# Altium schematic symbol library V-Semiconductors.SCHLIB: 42 symbols
Pins are listed as number, name and electrical type; pins without a type are passive.

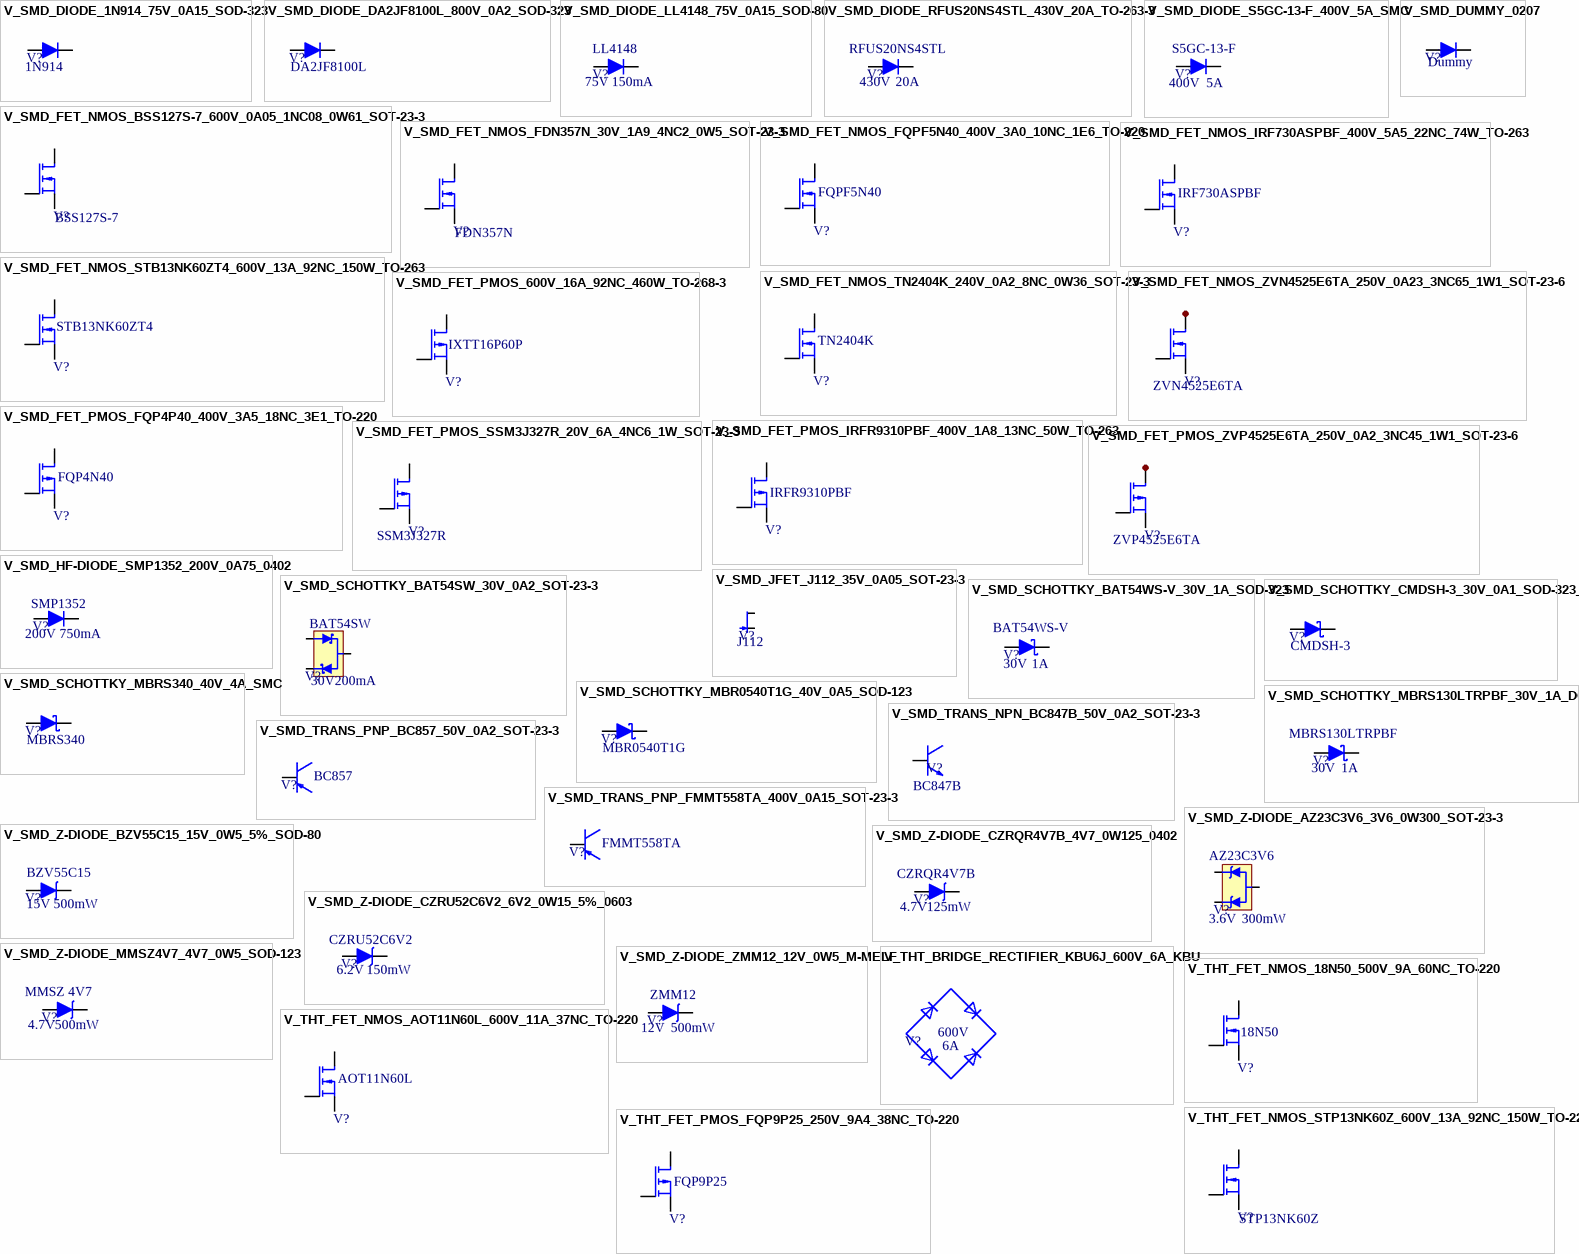
[diagram p0: symbols V_SMD_DIODE_1N914_75V_0A15_SOD-323 to V_THT_FET_PMOS_FQP9P25_250V_9A4_38NC_TO-220]

## V_SMD_DIODE_1N914_75V_0A15_SOD-323
designator V?  Type: 1N914  (hidden comment: V_SMD_DIODE_1N914_75V_0A15_SOD-323)
SMD Diode, 75V, 0.15A; Supplier - Digikey: 1N914BWSCT-ND
footprint SMD_SOD_323
pins: 1, 2

## V_SMD_DIODE_DA2JF8100L_800V_0A2_SOD-323
designator V?  Type: DA2JF8100L  (hidden comment: V_SMD_DIODE_DA2JF8100L_800V_0A2_SOD-323)
Fast Recovery Diode; Supplier - Digikey: DA2JF8100LTR-ND
footprint SMD_SOD_323
pins: 1, 2

## V_SMD_DIODE_LL4148_75V_0A15_SOD-80
designator V?  value 75V  Type: LL4148  Value2: 150mA  (hidden comment: V_SMD_DIODE_LL4148_75V_0A15_SOD-80)
Supplier - E+H-flowtec SAP: 50019426
footprint SMD_SOD_80P
pins: 1, 2

## V_SMD_DIODE_RFUS20NS4STL_430V_20A_TO-263-3
designator V?  value 430V  Type: RFUS20NS4STL  Value2: 20A  (hidden comment: V_SMD_DIODE_RFUS20NS4STL_430V_20A_TO-263-3)
Super Fast Recovery Diode; Supplier - Digikey: RFUS20NS4STLCT-ND
footprint SMD_TO_263; pin to pad 2>4
pins: 1, 2, 3

## V_SMD_DIODE_S5GC-13-F_400V_5A_SMC
designator V?  value 400V  Type: S5GC-13-F  Value2: 5A  (hidden comment: V_SMD_DIODE_S5GC-13-F_400V_5A_SMC)
Surface Mount Glass Passivated Rectifier; Supplier - Digikey: S5GC-FDICT-ND
footprint SMD_SMC_P (SMD_SMC (polarized))
pins: 1, 2

## V_SMD_DUMMY_0207
designator V?  Type: Dummy  (hidden comment: V_SMD_DUMMY_0207)
Dummy Diode
footprint SMD_0207
pins: 1, 2

## V_SMD_FET_NMOS_BSS127S-7_600V_0A05_1NC08_0W61_SOT-23-3
designator V?  Type: BSS127S-7  (hidden comment: V_SMD_FET_NMOS_BSS127S-7_600V_0A05_1NC08_0W61_SOT-23-3)
N-Channel Logic Level Enhancement Mode Field Effect Transistor; Supplier - Digikey: BSS127S-7DICT-ND
footprint SMD_SOT_23_3
pins: 1 Gate, 2 Source, 3 Drain

## V_SMD_FET_NMOS_FDN357N_30V_1A9_4NC2_0W5_SOT-23-3
designator V?  Type: FDN357N  (hidden comment: V_SMD_FET_NMOS_FDN357N_30V_1A9_4NC2_0W5_SOT-23-3)
N-Channel Logic Level Enhancement Mode Field Effect Transistor; Supplier - E+H-flowtec SAP: 50110216
footprint SMD_SOT_23_3
pins: 1 Gate, 2 Source, 3 Drain

## V_SMD_FET_NMOS_FQPF5N40_400V_3A0_10NC_1E6_TO-220
designator V?  Type: FQPF5N40  (hidden comment: V_SMD_FET_NMOS_FQPF5N40_400V_3A0_10NC_1E6_TO-220)
N-Channel 400V MOSFET; Supplier - Digikey: FQPF5N40-ND
footprint THT_TO_220
pins: 1 Gate, 2 Drain, 3 Source

## V_SMD_FET_NMOS_IRF730ASPBF_400V_5A5_22NC_74W_TO-263
designator V?  Type: IRF730ASPBF  (hidden comment: V_SMD_FET_NMOS_IRF730ASPBF_400V_5A5_22NC_74W_TO-263)
N-Channel 400V MOSFET; Supplier - Digikey: IRF730ASPBF-ND
footprint SMD_TO_263; pin to pad 2>4
pins: 1 Gate, 2 Drain, 3 Source

## V_SMD_FET_NMOS_STB13NK60ZT4_600V_13A_92NC_150W_TO-263
designator V?  Type: STB13NK60ZT4  (hidden comment: V_SMD_FET_NMOS_STB13NK60ZT4_600V_13A_92NC_150W_TO-263)
N-Channel 600V, 0.48Ohm, 13A, Zener-protected superMESH Power MOSFET; Supplier - Digikey: 497-6546-1-ND
footprint SMD_TO_263; pin to pad 2>4
pins: 1 Gate, 2 Drain, 3 Source

## V_SMD_FET_NMOS_TN2404K_240V_0A2_8NC_0W36_SOT-23-3
designator V?  Type: TN2404K  (hidden comment: V_SMD_FET_NMOS_TN2404K_240V_0A2_8NC_0W36_SOT-23-3)
N-Channel 240V MOSFET; Supplier - Digikey: TN2404K-T1-E3TR-ND
footprint SMD_SOT_23_3
pins: 1 Gate, 2 Drain, 3 Source

## V_SMD_FET_NMOS_ZVN4525E6TA_250V_0A23_3NC65_1W1_SOT-23-6
designator V?  Type: ZVN4525E6TA  (hidden comment: V_SMD_FET_NMOS_ZVN4525E6TA_250V_0A23_3NC65_1W1_SOT-23-6)
MOSFET N-CH 250V 230MA SOT-23-6; Supplier - Digikey: ZVN4525E6CT-ND
footprint SMD_SOT_23_6
pins: 1 Drain, 2 Drain, 3 Gate, 4 Source, 5 Drain, 6 Drain

## V_SMD_FET_PMOS_600V_16A_92NC_460W_TO-268-3
designator V?, comment Type: IXTT16P60P  (hidden comment: V_SMD_FET_IXTT16P60P_PMOS_600V_16A_92NC_460W_TO-268-3)
P-Channel Power MOSFET; Supplier - Digikey: IXTT16P60P-ND
footprint SMD_TO-268-3
pins: 1 Gate, 2 Drain, 3 Source

## V_SMD_FET_PMOS_FQP4P40_400V_3A5_18NC_3E1_TO-220
designator V?  Type: FQP4N40  (hidden comment: V_SMD_FET_PMOS_FQP4P40_400V_3A5_18NC_3E1_TO-220)
P-Channel 400V MOSFET; Supplier - Digikey: FQP4P40FS-ND
footprint THT_TO_220
pins: 1 Gate, 2 Drain, 3 Source

## V_SMD_FET_PMOS_IRFR9310PBF_400V_1A8_13NC_50W_TO-263
designator V?  Type: IRFR9310PBF  (hidden comment: V_SMD_FET_PMOS_IRFR9310PBF_400V_1A8_13NC_50W_TO-263)
P-Channel 400V MOSFET; Supplier - Digikey: IRFR9310PBF-ND
footprint SMD_TO_263; pin to pad 2>4
pins: 1 Gate, 2 Drain, 3 Source

## V_SMD_FET_PMOS_SSM3J327R_20V_6A_4NC6_1W_SOT-23-3
designator V?  Type: SSM3J327R  (hidden comment: V_SMD_FET_PMOS_SSM3J327R_20V_6A_4NC6_1W_SOT-23-3)
Supplier - Digikey: SSM3J327RLFCT-ND
footprint SMD_SOT_23_3
pins: 1 Gate, 2 Source, 3 Drain

## V_SMD_FET_PMOS_ZVP4525E6TA_250V_0A2_3NC45_1W1_SOT-23-6
designator V?  Type: ZVP4525E6TA  (hidden comment: V_SMD_FET_PMOS_ZVP4525E6TA_250V_0A2_3NC45_1W1_SOT-23-6)
MOSFET P-CH 250V 197MA SOT-23-6; Supplier - Digikey: ZVP4525E6CT-ND
footprint SMD_SOT_23_6
pins: 1 Drain, 2 Drain, 3 Gate, 4 Source, 5 Drain, 6 Drain

## V_SMD_HF-DIODE_SMP1352_200V_0A75_0402
designator V?  value 200V  Value2: 750mA  Type: SMP1352  (hidden comment: V_SMD_HF-DIODE_SMP1352_200V_0A75_0402)
HF-Diode; Supplier - Digikey: 863-1168-2-ND
footprint SMD_0402P
pins: 1, 2

## V_SMD_JFET_J112_35V_0A05_SOT-23-3
designator V?  Type: J112  (hidden comment: V_SMD_JFET_J112_35V_0A05_SOT-23-3)
J112 N-Channel Switch; Supplier - Digikey: MMBFJ112CT-ND
footprint SMD_SOT_23_3
pins: 1, 2, 3

## V_SMD_SCHOTTKY_BAT54SW_30V_0A2_SOT-23-3
designator V?  value 30V  Value2: 200mA  Type: BAT54SW  (hidden comment: V_SMD_SCHOTTKY_BAT54SW_30V_0A2_SOT-23-3)
SMD Schottky Dual Antiparallel 30V 200mA; Supplier - Digikey: BAT54SW-FDICT-ND
footprint SMD_SOT_23_3
pins: 1 Anode, 2 Cathode, 3 Common

## V_SMD_SCHOTTKY_BAT54WS-V_30V_1A_SOD-323
designator V?  value 30V  Type: BAT54WS-V  Value2: 1A  (hidden comment: V_SMD_SCHOTTKY_BAT54WS-V_30V_1A_SOD-323)
SMD Schottky; Supplier - Digikey: BAT54WS-V-GS18CT-ND
footprint SMD_SOD_323
pins: 1, 2

## V_SMD_SCHOTTKY_CMDSH-3_30V_0A1_SOD-323_1
designator V?, comment Type: CMDSH-3  (hidden comment: V_SMD_SCHOTTKY_MBR0540T1G_40V_0A5_SOD-123)
Schottky diode, 30V, 100mA, SOD-323; Supplier - Digikey: CMDSH-3 CT-ND
footprint SMD_SOD_323
pins: 1, 2

## V_SMD_SCHOTTKY_MBR0540T1G_40V_0A5_SOD-123
designator V?  Type: MBR0540T1G  (hidden comment: V_SMD_SCHOTTKY_MBR0540T1G_40V_0A5_SOD-123)
Schottky diode, 40V, 500mA, SOD-123; Supplier - Digikey: MBR0540T1GOSCT-ND
footprint SMD_SOD_123
pins: 1, 2

## V_SMD_SCHOTTKY_MBRS130LTRPBF_30V_1A_DO214AA
designator V?  value 30V  Type: MBRS130LTRPBF  Value2: 1A  (hidden comment: V_SMD_SCHOTTKY_MBRS130LTRPBF_30V_1A_DO214AA)
Supplier - Digikey: VS-MBRS130LTRPBFCT-ND
footprint SMD_DO-214AA_SMB
pins: 1, 2

## V_SMD_SCHOTTKY_MBRS340_40V_4A_SMC
designator V?  Type: MBRS340  (hidden comment: V_SMD_SCHOTTKY_MBRS340_40V_4A_SMC)
Schottky diode, 40V, 4A, SMC; Supplier - Digikey: MBRS340FSCT-ND
footprint SMD_SMC_P (SMD_SMC (polarized))
pins: 1, 2

## V_SMD_TRANS_NPN_BC847B_50V_0A2_SOT-23-3
designator V?  Type: BC847B  (hidden comment: V_SMD_TRANS_NPN_BC847B_50V_0A2_SOT-23-3)
NPN Transistor; Supplier - E+H-flowtec SAP: 50019820
footprint SMD_SOT_23_3
pins: 1 B, 2 E, 3 C

## V_SMD_TRANS_PNP_BC857_50V_0A2_SOT-23-3
designator V?  Type: BC857  (hidden comment: V_SMD_TRANS_PNP_BC857_50V_0A2_SOT-23-3)
SMD PNP Transistor BC857 200mA; Supplier - E+H-flowtec SAP: 50019821
footprint SMD_SOT_23_3
pins: 1 B, 2 E, 3 C

## V_SMD_TRANS_PNP_FMMT558TA_400V_0A15_SOT-23-3
designator V?  Type: FMMT558TA  (hidden comment: V_SMD_TRANS_PNP_FMMT558TA_400V_0A15_SOT-23-3)
TRANS PNP 400V 150MA HV SOT23-3; Supplier - Digikey: FMMT558CT-ND
footprint SMD_SOT_23_3
pins: 1 B, 2 E, 3 C

## V_SMD_Z-DIODE_AZ23C3V6_3V6_0W300_SOT-23-3
designator V?  value 3.6V  Type: AZ23C3V6  Value2: 300mW  (hidden comment: V_SMD_Z-DIODE_AZ23C3V6_3V6_0W300_SOT-23-3)
Zener Diode; Supplier - Digikey: AZ23C3V6-FDICT-ND
footprint SMD_SOT_23_3
pins: 1 Cathode, 2 Cathode, 3 Anode

## V_SMD_Z-DIODE_BZV55C15_15V_0W5_5%_SOD-80
designator V?  value 15V  Type: BZV55C15  Value2: 500mW  (hidden comment: V_SMD_Z-DIODE_BZV55C15_15V_0W5_5%_SOD-80)
Zener-Diode, 15V; Supplier - E+H-flowtec SAP: 50019806
footprint SMD_SOD_80P
pins: 1, 2

## V_SMD_Z-DIODE_CZRQR4V7B_4V7_0W125_0402
designator V?  value 4.7V  Type: CZRQR4V7B  Value2: 125mW  (hidden comment: V_SMD_Z-DIODE_CZRQR4V7B_4V7_0W125_0402)
Zener Diode; Supplier - Digikey: CZRQR4V7B-HF-ND
footprint SMD_0402P
pins: 1, 2

## V_SMD_Z-DIODE_CZRU52C6V2_6V2_0W15_5%_0603
designator V?  value 6.2V  Value2: 150mW  Type: CZRU52C6V2  (hidden comment: V_SMD_Z-DIODE_CZRU52C6V2_6V2_0W15_5%_0603)
Zener Diode, 6.2V; Supplier - Digikey: 641-1031-1-ND
footprint SMD_0603P
pins: 1, 2

## V_SMD_Z-DIODE_MMSZ4V7_4V7_0W5_SOD-123
designator V?  value 4.7V  Type: MMSZ 4V7  Value2: 500mW  (hidden comment: V_SMD_Z-DIODE_MMSZ4V7_4V7_0W5_SOD-123)
Zener Diode 4.7V 0.5W; Supplier - E+H-flowtec SAP: 71188865
footprint SMD_SOD_123
pins: 1, 2

## V_SMD_Z-DIODE_ZMM12_12V_0W5_M-MELF
designator V?  value 12V  Type: ZMM12  Value2: 500mW  (hidden comment: V_SMD_Z-DIODE_ZMM12_12V_0W5_M-MELF)
SMD Z-diode 12V 500mW; Supplier - E+H-flowtec SAP: 50019804
footprint SMD_0207
pins: 1, 2

## V_THT_BRIDGE_RECTIFIER_KBU6J_600V_6A_KBU
designator V?  value 600V  Value2: 6A  (hidden comment: V_THT_BRIDGE_RECTIFIER_KBU6J_600V_6A_KBU)
Bridge Recitifer; Type: KBU6J; Supplier - E+H-flowtec SAP: 71025862
footprint THT_KBU6J (THT_KBU67 Bridge Rectifier)
pins: 1, 2, 3, 4

## V_THT_FET_NMOS_18N50_500V_9A_60NC_TO-220
designator V?  Type: 18N50  (hidden comment: V_THT_FET_NMOS_18N50_500V_9A_60NC_TO-220)
DFP18N50 N-Channel UniFET MOSFET 500V, 18A, 265mOhm; Value2: 9A; Value: 500V; Supplier - Digikey: FDP18N50-ND
footprint THT_TO_220
pins: 1 Gate, 2 Drain, 3 Source

## V_THT_FET_NMOS_AOT11N60L_600V_11A_37NC_TO-220
designator V?  Type: AOT11N60L  (hidden comment: V_THT_FET_NMOS_AOT11N60L_600V_11A_37NC_TO-220)
600V, 11A N-Channel MOSFET; Supplier - Digikey: 785-1429-5-ND
footprint THT_TO_220
pins: 1 Gate, 2 Drain, 3 Source

## V_THT_FET_NMOS_STP13NK60Z_600V_13A_92NC_150W_TO-220
designator V?  Type: STP13NK60Z  (hidden comment: V_THT_FET_NMOS_STP13NK60Z_600V_13A_92NC_150W_TO-220)
Value: 600V; Value2: 13A; Supplier - Digikey: 497-3182-5-ND
footprint THT_TO_220
pins: 1 Gate, 2 Drain, 3 Source

## V_THT_FET_PMOS_FQP9P25_250V_9A4_38NC_TO-220
designator V?  Type: FQP9P25  (hidden comment: V_THT_FET_PMOS_FQP9P25_250V_9A4_38NC_TO-220)
200V P-Channel MOSFET; Supplier - Digikey: FQP9P25FS-ND
footprint THT_TO_220
pins: 1 Gate, 2 Drain, 3 Source

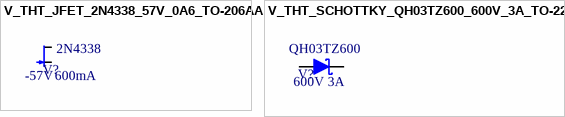
[diagram p1: symbols V_THT_JFET_2N4338_57V_0A6_TO-206AA to V_THT_SCHOTTKY_QH03TZ600_600V_3A_TO-220-2]

## V_THT_JFET_2N4338_57V_0A6_TO-206AA
designator V?  value -57V  Type: 2N4338  Value2: 600mA  (hidden comment: V_THT_JFET_2N4338_57V_0A6_TO-206AA)
N-Channel JFET; Supplier - Farnell: 1362882
footprint THT_TO_18
pins: 1, 2, 3

## V_THT_SCHOTTKY_QH03TZ600_600V_3A_TO-220-2
designator V?  value 600V  Type: QH03TZ600  Value2: 3A  (hidden comment: V_THT_SCHOTTKY_QH03TZ600_600V_3A_TO-220-2)
Qspeed Family, 600V, 3A H-Series PFC Diode; Supplier - Digikey: 596-1352-5-ND
footprint THT_TO_220_2
pins: 1, 2